# EAGLE library part PCB_SCREW_TERM_6 (library Steering)
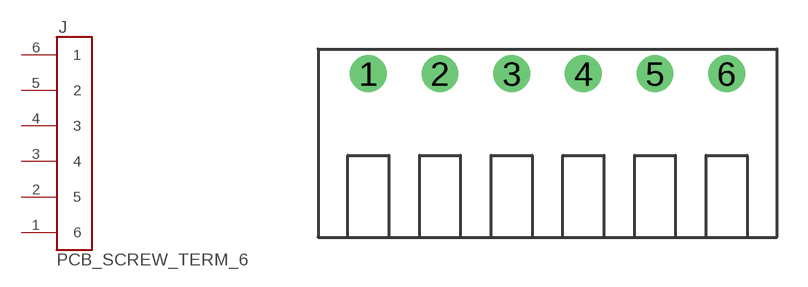
[diagram p3: symbol with the pads of SCREW_TERMINAL_PCB_CONN_6_POLE; footprint SCREW_TERMINAL_PCB_CONN_6_POLE]

Designator prefix J

## PCB_SCREW_TERM_6 (DKPT: 732-2773-ND)  [SCREW_TERMINAL_PCB_CONN_6_POLE]
1  6  pas
2  5  pas
3  4  pas
4  3  pas
5  2  pas
6  1  pas

## Footprint SCREW_TERMINAL_PCB_CONN_6_POLE (pad centres in mm)
https://www.digikey.com/product-detail/en/phoenix-contact/1985001/277-16289-ND/2513983
drill 1.2: 1 -9,3; 2 -5.5,3; 3 -2,3; 4 1.5,3; 5 5,3; 6 8.5,3